# EAGLE library part CYRF8935 (library ic-Cypress)
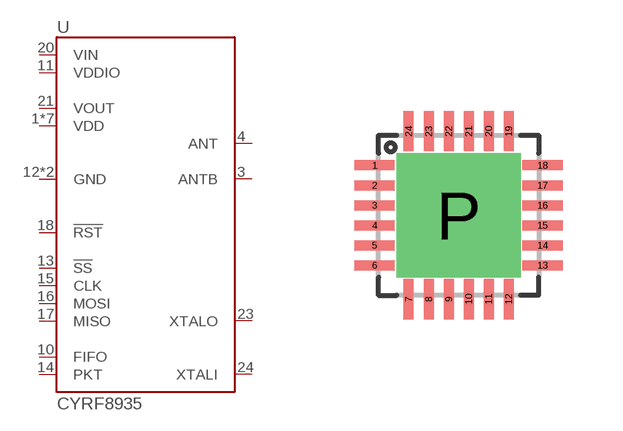
[diagram p1: symbol with the pads of QFN24-0.5; footprint QFN24-0.5]

Designator prefix U

## CYRF8935  [QFN24-0.5]
1  VDD
2  VDD
3  ANTB
4  ANT
5  VDD
8  VDD
9  VDD
10  FIFO
11  VDDIO
12  GND
13  !SS
14  PKT
15  CLK
16  MOSI
17  MISO
18  !RST
19  VDD
20  VIN
21  VOUT
22  VDD
23  XTALO
24  XTALI
P  GND

## Footprint QFN24-0.5 (pad centres in mm)
smd 1 x 0.25: 1 -2.1,1.25; 2 -2.1,0.75; 3 -2.1,0.25; 4 -2.1,-0.25; 5 -2.1,-0.75; 6 -2.1,-1.25; 13 2.1,-1.25; 14 2.1,-0.75; 15 2.1,-0.25; 16 2.1,0.25; 17 2.1,0.75; 18 2.1,1.25
smd 0.25 x 1: 7 -1.25,-2.1; 8 -0.75,-2.1; 9 -0.25,-2.1; 10 0.25,-2.1; 11 0.75,-2.1; 12 1.25,-2.1; 19 1.25,2.1; 20 0.75,2.1; 21 0.25,2.1; 22 -0.25,2.1; 23 -0.75,2.1; 24 -1.25,2.1
drill 2.1 pad 2.7 square: P 0,0